# Altium footprint library IPC-SM-782 Section 14.1.3 PBGA 1.0mm.PcbLib: 50 footprints (part 3 of 14)
Each footprint in its own frame and in the unit in brackets; x right, y up, seen from the top. Pads: shape width x height; smd on the part's side, far side on the other; paste and mask are expansions set on the pad; w line width, h text height; cw(c..) or ccw(c..) is an arc to the next point about the centre after c.
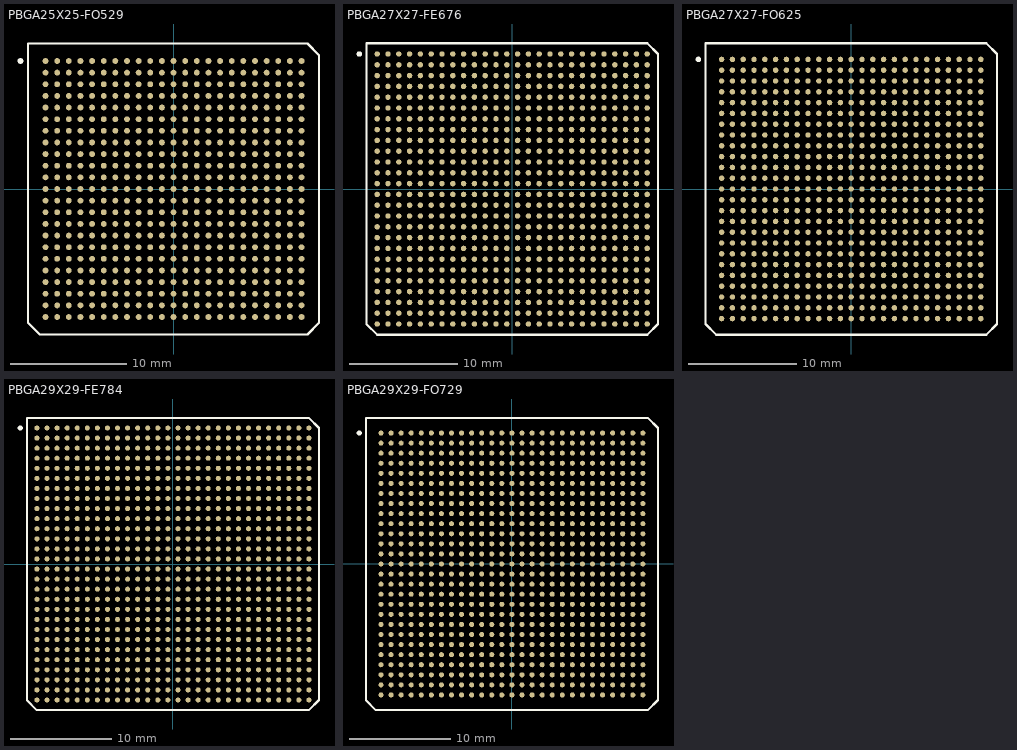
[diagram p2: the footprints below, top view; thin cyan lines are the x and y axes]

## PBGA25X25-FO529 [mm] "BGA; 529 Balls; Body 25 x 25 mm; Pitch 1 mm"
height 3.5
pads (529):
  round 0.5 smd: A1(-11,11) A2(-10,11) A3(-9,11) A4(-8,11) A5(-7,11) A6(-6,11) A7(-5,11) A8(-4,11) A9(-3,11) A10(-2,11) A11(-1,11) A12(0,11) A13(1,11) A14(2,11) A15(3,11) A16(4,11) A17(5,11) A18(6,11) A19(7,11) A20(8,11) A21(9,11) A22(10,11) A23(11,11) AA1(-11,-9) AA2(-10,-9) AA3(-9,-9) AA4(-8,-9) AA5(-7,-9) AA6(-6,-9) AA7(-5,-9) AA8(-4,-9) AA9(-3,-9) AA10(-2,-9) AA11(-1,-9) AA12(0,-9) AA13(1,-9) AA14(2,-9) AA15(3,-9) AA16(4,-9) AA17(5,-9) AA18(6,-9) AA19(7,-9) AA20(8,-9) AA21(9,-9) AA22(10,-9) AA23(11,-9) AB1(-11,-10) AB2(-10,-10) AB3(-9,-10) AB4(-8,-10) AB5(-7,-10) AB6(-6,-10) AB7(-5,-10) AB8(-4,-10) AB9(-3,-10) AB10(-2,-10) AB11(-1,-10) AB12(0,-10) AB13(1,-10) AB14(2,-10) AB15(3,-10) AB16(4,-10) AB17(5,-10) AB18(6,-10) AB19(7,-10) AB20(8,-10) AB21(9,-10) AB22(10,-10) AB23(11,-10) AC1(-11,-11) AC2(-10,-11) AC3(-9,-11) AC4(-8,-11) AC5(-7,-11) AC6(-6,-11) AC7(-5,-11) AC8(-4,-11) AC9(-3,-11) AC10(-2,-11) AC11(-1,-11) AC12(0,-11) AC13(1,-11) AC14(2,-11) AC15(3,-11) AC16(4,-11) AC17(5,-11) AC18(6,-11) AC19(7,-11) AC20(8,-11) AC21(9,-11) AC22(10,-11) AC23(11,-11) B1(-11,10) B2(-10,10) B3(-9,10) B4(-8,10) B5(-7,10) B6(-6,10) B7(-5,10) B8(-4,10) B9(-3,10) B10(-2,10) B11(-1,10) B12(0,10) B13(1,10) B14(2,10) B15(3,10) B16(4,10) B17(5,10) B18(6,10) B19(7,10) B20(8,10) B21(9,10) B22(10,10) B23(11,10) C1(-11,9) C2(-10,9) C3(-9,9) C4(-8,9) C5(-7,9) C6(-6,9) C7(-5,9) C8(-4,9) C9(-3,9) C10(-2,9) C11(-1,9) C12(0,9) C13(1,9) C14(2,9) C15(3,9) C16(4,9) C17(5,9) C18(6,9) C19(7,9) C20(8,9) C21(9,9) C22(10,9) C23(11,9) D1(-11,8) D2(-10,8) D3(-9,8) D4(-8,8) D5(-7,8) D6(-6,8) D7(-5,8) D8(-4,8) D9(-3,8) D10(-2,8) D11(-1,8) D12(0,8) D13(1,8) D14(2,8) D15(3,8) D16(4,8) D17(5,8) D18(6,8) D19(7,8) D20(8,8) D21(9,8) D22(10,8) D23(11,8) E1(-11,7) E2(-10,7) E3(-9,7) E4(-8,7) E5(-7,7) E6(-6,7) E7(-5,7) E8(-4,7) E9(-3,7) E10(-2,7) E11(-1,7) E12(0,7) E13(1,7) E14(2,7) E15(3,7) E16(4,7) E17(5,7) E18(6,7) E19(7,7) E20(8,7) E21(9,7) E22(10,7) E23(11,7) F1(-11,6) F2(-10,6) F3(-9,6) F4(-8,6) F5(-7,6) F6(-6,6) F7(-5,6) F8(-4,6) F9(-3,6) F10(-2,6) F11(-1,6) F12(0,6) F13(1,6) F14(2,6) F15(3,6) F16(4,6) F17(5,6) F18(6,6) F19(7,6) F20(8,6) F21(9,6) F22(10,6) F23(11,6) G1(-11,5) G2(-10,5) G3(-9,5) G4(-8,5) G5(-7,5) G6(-6,5) G7(-5,5) G8(-4,5) G9(-3,5) G10(-2,5) G11(-1,5) G12(0,5) G13(1,5) G14(2,5) G15(3,5) G16(4,5) G17(5,5) G18(6,5) G19(7,5) G20(8,5) G21(9,5) G22(10,5) G23(11,5) H1(-11,4) H2(-10,4) H3(-9,4) H4(-8,4) H5(-7,4) H6(-6,4) H7(-5,4) H8(-4,4) H9(-3,4) H10(-2,4) H11(-1,4) H12(0,4) H13(1,4) H14(2,4) H15(3,4) H16(4,4) H17(5,4) H18(6,4) H19(7,4) H20(8,4) H21(9,4) H22(10,4) H23(11,4) J1(-11,3) J2(-10,3) J3(-9,3) J4(-8,3) J5(-7,3) J6(-6,3) J7(-5,3) J8(-4,3) J9(-3,3) J10(-2,3) J11(-1,3) J12(0,3) J13(1,3) J14(2,3) J15(3,3) J16(4,3) J17(5,3) J18(6,3) J19(7,3) J20(8,3) J21(9,3) J22(10,3) J23(11,3) K1(-11,2) K2(-10,2) K3(-9,2) K4(-8,2) K5(-7,2) K6(-6,2) K7(-5,2) K8(-4,2) K9(-3,2) K10(-2,2) K11(-1,2) K12(0,2) K13(1,2) K14(2,2) K15(3,2) K16(4,2) K17(5,2) K18(6,2) K19(7,2) K20(8,2) K21(9,2) K22(10,2) K23(11,2) L1(-11,1) L2(-10,1) L3(-9,1) L4(-8,1) L5(-7,1) L6(-6,1) L7(-5,1) L8(-4,1) L9(-3,1) L10(-2,1) L11(-1,1) L12(0,1) L13(1,1) L14(2,1) L15(3,1) L16(4,1) L17(5,1) L18(6,1) L19(7,1) L20(8,1) L21(9,1) L22(10,1) L23(11,1) M1(-11,0) M2(-10,0) M3(-9,0) M4(-8,0) M5(-7,0) M6(-6,0) M7(-5,0) M8(-4,0) M9(-3,0) M10(-2,0) M11(-1,0) M12(0,0) M13(1,0) M14(2,0) M15(3,0) M16(4,0) M17(5,0) M18(6,0) M19(7,0) M20(8,0) M21(9,0) M22(10,0) M23(11,0) N1(-11,-1) N2(-10,-1) N3(-9,-1) N4(-8,-1) N5(-7,-1) N6(-6,-1) N7(-5,-1) N8(-4,-1) N9(-3,-1) N10(-2,-1) N11(-1,-1) N12(0,-1) N13(1,-1) N14(2,-1) N15(3,-1) N16(4,-1) N17(5,-1) N18(6,-1) N19(7,-1) N20(8,-1) N21(9,-1) N22(10,-1) N23(11,-1) P1(-11,-2) P2(-10,-2) P3(-9,-2) P4(-8,-2) P5(-7,-2) P6(-6,-2) P7(-5,-2) P8(-4,-2) P9(-3,-2) P10(-2,-2) P11(-1,-2) P12(0,-2) P13(1,-2) P14(2,-2) P15(3,-2) P16(4,-2) P17(5,-2) P18(6,-2) P19(7,-2) P20(8,-2) P21(9,-2) P22(10,-2) P23(11,-2) R1(-11,-3) R2(-10,-3) R3(-9,-3) R4(-8,-3) R5(-7,-3) R6(-6,-3) R7(-5,-3) R8(-4,-3) R9(-3,-3) R10(-2,-3) R11(-1,-3) R12(0,-3) R13(1,-3) R14(2,-3) R15(3,-3) R16(4,-3) R17(5,-3) R18(6,-3) R19(7,-3) R20(8,-3) R21(9,-3) R22(10,-3) R23(11,-3) T1(-11,-4) T2(-10,-4) T3(-9,-4) T4(-8,-4) T5(-7,-4) T6(-6,-4) T7(-5,-4) T8(-4,-4) T9(-3,-4) T10(-2,-4) T11(-1,-4) T12(0,-4) T13(1,-4) T14(2,-4) T15(3,-4) T16(4,-4) T17(5,-4) T18(6,-4) T19(7,-4) T20(8,-4) T21(9,-4) T22(10,-4) T23(11,-4) U1(-11,-5) U2(-10,-5) U3(-9,-5) U4(-8,-5) U5(-7,-5) U6(-6,-5) U7(-5,-5) U8(-4,-5) U9(-3,-5) U10(-2,-5) U11(-1,-5) U12(0,-5) U13(1,-5) U14(2,-5) U15(3,-5) U16(4,-5) U17(5,-5) U18(6,-5) U19(7,-5) U20(8,-5) U21(9,-5) U22(10,-5) U23(11,-5) V1(-11,-6) V2(-10,-6) V3(-9,-6) V4(-8,-6) V5(-7,-6) V6(-6,-6) V7(-5,-6) V8(-4,-6) V9(-3,-6) V10(-2,-6) V11(-1,-6) V12(0,-6) V13(1,-6) V14(2,-6) V15(3,-6) V16(4,-6) V17(5,-6) V18(6,-6) V19(7,-6) V20(8,-6) V21(9,-6) V22(10,-6) V23(11,-6) W1(-11,-7) W2(-10,-7) W3(-9,-7) W4(-8,-7) W5(-7,-7) W6(-6,-7) W7(-5,-7) W8(-4,-7) W9(-3,-7) W10(-2,-7) W11(-1,-7) W12(0,-7) W13(1,-7) W14(2,-7) W15(3,-7) W16(4,-7) W17(5,-7) W18(6,-7) W19(7,-7) W20(8,-7) W21(9,-7) W22(10,-7) W23(11,-7) Y1(-11,-8) Y2(-10,-8) Y3(-9,-8) Y4(-8,-8) Y5(-7,-8) Y6(-6,-8) Y7(-5,-8) Y8(-4,-8) Y9(-3,-8) Y10(-2,-8) Y11(-1,-8) Y12(0,-8) Y13(1,-8) Y14(2,-8) Y15(3,-8) Y16(4,-8) Y17(5,-8) Y18(6,-8) Y19(7,-8) Y20(8,-8) Y21(9,-8) Y22(10,-8) Y23(11,-8)
Top Overlay:
  circle w0.25: c-13.155,11 r0.125
  lines w0.2: -12.5,-11.5 -12.5,12.5 11.5,12.5 12.5,11.5 12.5,-11.5 11.5,-12.5 -11.5,-12.5 -12.5,-11.5

## PBGA27X27-FE676 [mm] "BGA; 676 Balls; Body 27 x 27 mm; Pitch 1 mm"
height 3.5
pads (676):
  round 0.5 smd: A1(-12.5,12.5) A2(-11.5,12.5) A3(-10.5,12.5) A4(-9.5,12.5) A5(-8.5,12.5) A6(-7.5,12.5) A7(-6.5,12.5) A8(-5.5,12.5) A9(-4.5,12.5) A10(-3.5,12.5) A11(-2.5,12.5) A12(-1.5,12.5) A13(-0.5,12.5) A14(0.5,12.5) A15(1.5,12.5) A16(2.5,12.5) A17(3.5,12.5) A18(4.5,12.5) A19(5.5,12.5) A20(6.5,12.5) A21(7.5,12.5) A22(8.5,12.5) A23(9.5,12.5) A24(10.5,12.5) A25(11.5,12.5) A26(12.5,12.5) AA1(-12.5,-7.5) AA2(-11.5,-7.5) AA3(-10.5,-7.5) AA4(-9.5,-7.5) AA5(-8.5,-7.5) AA6(-7.5,-7.5) AA7(-6.5,-7.5) AA8(-5.5,-7.5) AA9(-4.5,-7.5) AA10(-3.5,-7.5) AA11(-2.5,-7.5) AA12(-1.5,-7.5) AA13(-0.5,-7.5) AA14(0.5,-7.5) AA15(1.5,-7.5) AA16(2.5,-7.5) AA17(3.5,-7.5) AA18(4.5,-7.5) AA19(5.5,-7.5) AA20(6.5,-7.5) AA21(7.5,-7.5) AA22(8.5,-7.5) AA23(9.5,-7.5) AA24(10.5,-7.5) AA25(11.5,-7.5) AA26(12.5,-7.5) AB1(-12.5,-8.5) AB2(-11.5,-8.5) AB3(-10.5,-8.5) AB4(-9.5,-8.5) AB5(-8.5,-8.5) AB6(-7.5,-8.5) AB7(-6.5,-8.5) AB8(-5.5,-8.5) AB9(-4.5,-8.5) AB10(-3.5,-8.5) AB11(-2.5,-8.5) AB12(-1.5,-8.5) AB13(-0.5,-8.5) AB14(0.5,-8.5) AB15(1.5,-8.5) AB16(2.5,-8.5) AB17(3.5,-8.5) AB18(4.5,-8.5) AB19(5.5,-8.5) AB20(6.5,-8.5) AB21(7.5,-8.5) AB22(8.5,-8.5) AB23(9.5,-8.5) AB24(10.5,-8.5) AB25(11.5,-8.5) AB26(12.5,-8.5) AC1(-12.5,-9.5) AC2(-11.5,-9.5) AC3(-10.5,-9.5) AC4(-9.5,-9.5) AC5(-8.5,-9.5) AC6(-7.5,-9.5) AC7(-6.5,-9.5) AC8(-5.5,-9.5) AC9(-4.5,-9.5) AC10(-3.5,-9.5) AC11(-2.5,-9.5) AC12(-1.5,-9.5) AC13(-0.5,-9.5) AC14(0.5,-9.5) AC15(1.5,-9.5) AC16(2.5,-9.5) AC17(3.5,-9.5) AC18(4.5,-9.5) AC19(5.5,-9.5) AC20(6.5,-9.5) AC21(7.5,-9.5) AC22(8.5,-9.5) AC23(9.5,-9.5) AC24(10.5,-9.5) AC25(11.5,-9.5) AC26(12.5,-9.5) AD1(-12.5,-10.5) AD2(-11.5,-10.5) AD3(-10.5,-10.5) AD4(-9.5,-10.5) AD5(-8.5,-10.5) AD6(-7.5,-10.5) AD7(-6.5,-10.5) AD8(-5.5,-10.5) AD9(-4.5,-10.5) AD10(-3.5,-10.5) AD11(-2.5,-10.5) AD12(-1.5,-10.5) AD13(-0.5,-10.5) AD14(0.5,-10.5) AD15(1.5,-10.5) AD16(2.5,-10.5) AD17(3.5,-10.5) AD18(4.5,-10.5) AD19(5.5,-10.5) AD20(6.5,-10.5) AD21(7.5,-10.5) AD22(8.5,-10.5) AD23(9.5,-10.5) AD24(10.5,-10.5) AD25(11.5,-10.5) AD26(12.5,-10.5) AE1(-12.5,-11.5) AE2(-11.5,-11.5) AE3(-10.5,-11.5) AE4(-9.5,-11.5) AE5(-8.5,-11.5) AE6(-7.5,-11.5) AE7(-6.5,-11.5) AE8(-5.5,-11.5) AE9(-4.5,-11.5) AE10(-3.5,-11.5) AE11(-2.5,-11.5) AE12(-1.5,-11.5) AE13(-0.5,-11.5) AE14(0.5,-11.5) AE15(1.5,-11.5) AE16(2.5,-11.5) AE17(3.5,-11.5) AE18(4.5,-11.5) AE19(5.5,-11.5) AE20(6.5,-11.5) AE21(7.5,-11.5) AE22(8.5,-11.5) AE23(9.5,-11.5) AE24(10.5,-11.5) AE25(11.5,-11.5) AE26(12.5,-11.5) AF1(-12.5,-12.5) AF2(-11.5,-12.5) AF3(-10.5,-12.5) AF4(-9.5,-12.5) AF5(-8.5,-12.5) AF6(-7.5,-12.5) AF7(-6.5,-12.5) AF8(-5.5,-12.5) AF9(-4.5,-12.5) AF10(-3.5,-12.5) AF11(-2.5,-12.5) AF12(-1.5,-12.5) AF13(-0.5,-12.5) AF14(0.5,-12.5) AF15(1.5,-12.5) AF16(2.5,-12.5) AF17(3.5,-12.5) AF18(4.5,-12.5) AF19(5.5,-12.5) AF20(6.5,-12.5) AF21(7.5,-12.5) AF22(8.5,-12.5) AF23(9.5,-12.5) AF24(10.5,-12.5) AF25(11.5,-12.5) AF26(12.5,-12.5) B1(-12.5,11.5) B2(-11.5,11.5) B3(-10.5,11.5) B4(-9.5,11.5) B5(-8.5,11.5) B6(-7.5,11.5) B7(-6.5,11.5) B8(-5.5,11.5) B9(-4.5,11.5) B10(-3.5,11.5) B11(-2.5,11.5) B12(-1.5,11.5) B13(-0.5,11.5) B14(0.5,11.5) B15(1.5,11.5) B16(2.5,11.5) B17(3.5,11.5) B18(4.5,11.5) B19(5.5,11.5) B20(6.5,11.5) B21(7.5,11.5) B22(8.5,11.5) B23(9.5,11.5) B24(10.5,11.5) B25(11.5,11.5) B26(12.5,11.5) C1(-12.5,10.5) C2(-11.5,10.5) C3(-10.5,10.5) C4(-9.5,10.5) C5(-8.5,10.5) C6(-7.5,10.5) C7(-6.5,10.5) C8(-5.5,10.5) C9(-4.5,10.5) C10(-3.5,10.5) C11(-2.5,10.5) C12(-1.5,10.5) C13(-0.5,10.5) C14(0.5,10.5) C15(1.5,10.5) C16(2.5,10.5) C17(3.5,10.5) C18(4.5,10.5) C19(5.5,10.5) C20(6.5,10.5) C21(7.5,10.5) C22(8.5,10.5) C23(9.5,10.5) C24(10.5,10.5) C25(11.5,10.5) C26(12.5,10.5) D1(-12.5,9.5) D2(-11.5,9.5) D3(-10.5,9.5) D4(-9.5,9.5) D5(-8.5,9.5) D6(-7.5,9.5) D7(-6.5,9.5) D8(-5.5,9.5) D9(-4.5,9.5) D10(-3.5,9.5) D11(-2.5,9.5) D12(-1.5,9.5) D13(-0.5,9.5) D14(0.5,9.5) D15(1.5,9.5) D16(2.5,9.5) D17(3.5,9.5) D18(4.5,9.5) D19(5.5,9.5) D20(6.5,9.5) D21(7.5,9.5) D22(8.5,9.5) D23(9.5,9.5) D24(10.5,9.5) D25(11.5,9.5) D26(12.5,9.5) E1(-12.5,8.5) E2(-11.5,8.5) E3(-10.5,8.5) E4(-9.5,8.5) E5(-8.5,8.5) E6(-7.5,8.5) E7(-6.5,8.5) E8(-5.5,8.5) E9(-4.5,8.5) E10(-3.5,8.5) E11(-2.5,8.5) E12(-1.5,8.5) E13(-0.5,8.5) E14(0.5,8.5) E15(1.5,8.5) E16(2.5,8.5) E17(3.5,8.5) E18(4.5,8.5) E19(5.5,8.5) E20(6.5,8.5) E21(7.5,8.5) E22(8.5,8.5) E23(9.5,8.5) E24(10.5,8.5) E25(11.5,8.5) E26(12.5,8.5) F1(-12.5,7.5) F2(-11.5,7.5) F3(-10.5,7.5) F4(-9.5,7.5) F5(-8.5,7.5) F6(-7.5,7.5) F7(-6.5,7.5) F8(-5.5,7.5) F9(-4.5,7.5) F10(-3.5,7.5) F11(-2.5,7.5) F12(-1.5,7.5) F13(-0.5,7.5) F14(0.5,7.5) F15(1.5,7.5) F16(2.5,7.5) F17(3.5,7.5) F18(4.5,7.5) F19(5.5,7.5) F20(6.5,7.5) F21(7.5,7.5) F22(8.5,7.5) F23(9.5,7.5) F24(10.5,7.5) F25(11.5,7.5) F26(12.5,7.5) G1(-12.5,6.5) G2(-11.5,6.5) G3(-10.5,6.5) G4(-9.5,6.5) G5(-8.5,6.5) G6(-7.5,6.5) G7(-6.5,6.5) G8(-5.5,6.5) G9(-4.5,6.5) G10(-3.5,6.5) G11(-2.5,6.5) G12(-1.5,6.5) G13(-0.5,6.5) G14(0.5,6.5) G15(1.5,6.5) G16(2.5,6.5) G17(3.5,6.5) G18(4.5,6.5) G19(5.5,6.5) G20(6.5,6.5) G21(7.5,6.5) G22(8.5,6.5) G23(9.5,6.5) G24(10.5,6.5) G25(11.5,6.5) G26(12.5,6.5) H1(-12.5,5.5) H2(-11.5,5.5) H3(-10.5,5.5) H4(-9.5,5.5) H5(-8.5,5.5) H6(-7.5,5.5) H7(-6.5,5.5) H8(-5.5,5.5) H9(-4.5,5.5) H10(-3.5,5.5) H11(-2.5,5.5) H12(-1.5,5.5) H13(-0.5,5.5) H14(0.5,5.5) H15(1.5,5.5) H16(2.5,5.5) H17(3.5,5.5) H18(4.5,5.5) H19(5.5,5.5) H20(6.5,5.5) H21(7.5,5.5) H22(8.5,5.5) H23(9.5,5.5) H24(10.5,5.5) H25(11.5,5.5) H26(12.5,5.5) J1(-12.5,4.5) J2(-11.5,4.5) J3(-10.5,4.5) J4(-9.5,4.5) J5(-8.5,4.5) J6(-7.5,4.5) J7(-6.5,4.5) J8(-5.5,4.5) J9(-4.5,4.5) J10(-3.5,4.5) J11(-2.5,4.5) J12(-1.5,4.5) J13(-0.5,4.5) J14(0.5,4.5) J15(1.5,4.5) J16(2.5,4.5) J17(3.5,4.5) J18(4.5,4.5) J19(5.5,4.5) J20(6.5,4.5) J21(7.5,4.5) J22(8.5,4.5) J23(9.5,4.5) J24(10.5,4.5) J25(11.5,4.5) J26(12.5,4.5) K1(-12.5,3.5) K2(-11.5,3.5) K3(-10.5,3.5) K4(-9.5,3.5) K5(-8.5,3.5) K6(-7.5,3.5) K7(-6.5,3.5) K8(-5.5,3.5) K9(-4.5,3.5) K10(-3.5,3.5) K11(-2.5,3.5) K12(-1.5,3.5) K13(-0.5,3.5) K14(0.5,3.5) K15(1.5,3.5) K16(2.5,3.5) K17(3.5,3.5) K18(4.5,3.5) K19(5.5,3.5) K20(6.5,3.5) K21(7.5,3.5) K22(8.5,3.5) K23(9.5,3.5) K24(10.5,3.5) K25(11.5,3.5) K26(12.5,3.5) L1(-12.5,2.5) L2(-11.5,2.5) L3(-10.5,2.5) L4(-9.5,2.5) L5(-8.5,2.5) L6(-7.5,2.5) L7(-6.5,2.5) L8(-5.5,2.5) L9(-4.5,2.5) L10(-3.5,2.5) L11(-2.5,2.5) L12(-1.5,2.5) L13(-0.5,2.5) L14(0.5,2.5) L15(1.5,2.5) L16(2.5,2.5) L17(3.5,2.5) L18(4.5,2.5) L19(5.5,2.5) L20(6.5,2.5) L21(7.5,2.5) L22(8.5,2.5) L23(9.5,2.5) L24(10.5,2.5) L25(11.5,2.5) L26(12.5,2.5) M1(-12.5,1.5) M2(-11.5,1.5) M3(-10.5,1.5) M4(-9.5,1.5) M5(-8.5,1.5) M6(-7.5,1.5) M7(-6.5,1.5) M8(-5.5,1.5) M9(-4.5,1.5) M10(-3.5,1.5) M11(-2.5,1.5) M12(-1.5,1.5) M13(-0.5,1.5) M14(0.5,1.5) M15(1.5,1.5) M16(2.5,1.5) M17(3.5,1.5) M18(4.5,1.5) M19(5.5,1.5) M20(6.5,1.5) M21(7.5,1.5) M22(8.5,1.5) M23(9.5,1.5) M24(10.5,1.5) M25(11.5,1.5) M26(12.5,1.5) N1(-12.5,0.5) N2(-11.5,0.5) N3(-10.5,0.5) N4(-9.5,0.5) N5(-8.5,0.5) N6(-7.5,0.5) N7(-6.5,0.5) N8(-5.5,0.5) N9(-4.5,0.5) N10(-3.5,0.5) N11(-2.5,0.5) N12(-1.5,0.5) N13(-0.5,0.5) N14(0.5,0.5) N15(1.5,0.5) N16(2.5,0.5) N17(3.5,0.5) N18(4.5,0.5) N19(5.5,0.5) N20(6.5,0.5) N21(7.5,0.5) N22(8.5,0.5) N23(9.5,0.5) N24(10.5,0.5) N25(11.5,0.5) N26(12.5,0.5) P1(-12.5,-0.5) P2(-11.5,-0.5) P3(-10.5,-0.5) P4(-9.5,-0.5) P5(-8.5,-0.5) P6(-7.5,-0.5) P7(-6.5,-0.5) P8(-5.5,-0.5) P9(-4.5,-0.5) P10(-3.5,-0.5) P11(-2.5,-0.5) P12(-1.5,-0.5) P13(-0.5,-0.5) P14(0.5,-0.5) P15(1.5,-0.5) P16(2.5,-0.5) P17(3.5,-0.5) P18(4.5,-0.5) P19(5.5,-0.5) P20(6.5,-0.5) P21(7.5,-0.5) P22(8.5,-0.5) P23(9.5,-0.5) P24(10.5,-0.5) P25(11.5,-0.5) P26(12.5,-0.5) R1(-12.5,-1.5) R2(-11.5,-1.5) R3(-10.5,-1.5) R4(-9.5,-1.5) R5(-8.5,-1.5) R6(-7.5,-1.5) R7(-6.5,-1.5) R8(-5.5,-1.5) R9(-4.5,-1.5) R10(-3.5,-1.5) R11(-2.5,-1.5) R12(-1.5,-1.5) R13(-0.5,-1.5) R14(0.5,-1.5) R15(1.5,-1.5) R16(2.5,-1.5) R17(3.5,-1.5) R18(4.5,-1.5) R19(5.5,-1.5) R20(6.5,-1.5) R21(7.5,-1.5) R22(8.5,-1.5) R23(9.5,-1.5) R24(10.5,-1.5) R25(11.5,-1.5) R26(12.5,-1.5) T1(-12.5,-2.5) T2(-11.5,-2.5) T3(-10.5,-2.5) T4(-9.5,-2.5) T5(-8.5,-2.5) T6(-7.5,-2.5) T7(-6.5,-2.5) T8(-5.5,-2.5) T9(-4.5,-2.5) T10(-3.5,-2.5) T11(-2.5,-2.5) T12(-1.5,-2.5) T13(-0.5,-2.5) T14(0.5,-2.5) T15(1.5,-2.5) T16(2.5,-2.5) T17(3.5,-2.5) T18(4.5,-2.5) T19(5.5,-2.5) T20(6.5,-2.5) T21(7.5,-2.5) T22(8.5,-2.5) T23(9.5,-2.5) T24(10.5,-2.5) T25(11.5,-2.5) T26(12.5,-2.5) U1(-12.5,-3.5) U2(-11.5,-3.5) U3(-10.5,-3.5) U4(-9.5,-3.5) U5(-8.5,-3.5) U6(-7.5,-3.5) U7(-6.5,-3.5) U8(-5.5,-3.5) U9(-4.5,-3.5) U10(-3.5,-3.5) U11(-2.5,-3.5) U12(-1.5,-3.5) U13(-0.5,-3.5) U14(0.5,-3.5) U15(1.5,-3.5) U16(2.5,-3.5) U17(3.5,-3.5) U18(4.5,-3.5) U19(5.5,-3.5) U20(6.5,-3.5) U21(7.5,-3.5) U22(8.5,-3.5) U23(9.5,-3.5) U24(10.5,-3.5) U25(11.5,-3.5) U26(12.5,-3.5) V1(-12.5,-4.5) V2(-11.5,-4.5) V3(-10.5,-4.5) V4(-9.5,-4.5) V5(-8.5,-4.5) V6(-7.5,-4.5) V7(-6.5,-4.5) V8(-5.5,-4.5) V9(-4.5,-4.5) V10(-3.5,-4.5) V11(-2.5,-4.5) V12(-1.5,-4.5) V13(-0.5,-4.5) V14(0.5,-4.5) V15(1.5,-4.5) V16(2.5,-4.5) V17(3.5,-4.5) V18(4.5,-4.5) V19(5.5,-4.5) V20(6.5,-4.5) V21(7.5,-4.5) V22(8.5,-4.5) V23(9.5,-4.5) V24(10.5,-4.5) V25(11.5,-4.5) V26(12.5,-4.5) W1(-12.5,-5.5) W2(-11.5,-5.5) W3(-10.5,-5.5) W4(-9.5,-5.5) W5(-8.5,-5.5) W6(-7.5,-5.5) W7(-6.5,-5.5) W8(-5.5,-5.5) W9(-4.5,-5.5) W10(-3.5,-5.5) W11(-2.5,-5.5) W12(-1.5,-5.5) W13(-0.5,-5.5) W14(0.5,-5.5) W15(1.5,-5.5) W16(2.5,-5.5) W17(3.5,-5.5) W18(4.5,-5.5) W19(5.5,-5.5) W20(6.5,-5.5) W21(7.5,-5.5) W22(8.5,-5.5) W23(9.5,-5.5) W24(10.5,-5.5) W25(11.5,-5.5) W26(12.5,-5.5) Y1(-12.5,-6.5) Y2(-11.5,-6.5) Y3(-10.5,-6.5) Y4(-9.5,-6.5) Y5(-8.5,-6.5) Y6(-7.5,-6.5) Y7(-6.5,-6.5) Y8(-5.5,-6.5) Y9(-4.5,-6.5) Y10(-3.5,-6.5) Y11(-2.5,-6.5) Y12(-1.5,-6.5) Y13(-0.5,-6.5) Y14(0.5,-6.5) Y15(1.5,-6.5) Y16(2.5,-6.5) Y17(3.5,-6.5) Y18(4.5,-6.5) Y19(5.5,-6.5) Y20(6.5,-6.5) Y21(7.5,-6.5) Y22(8.5,-6.5) Y23(9.5,-6.5) Y24(10.5,-6.5) Y25(11.5,-6.5) Y26(12.5,-6.5)
Top Overlay:
  circle w0.25: c-14.15,12.5 r0.125
  lines w0.2: -13.5,-12.5 -12.5,-13.5 12.5,-13.5 13.5,-12.5 13.5,12.5 12.5,13.5 -13.5,13.5 -13.5,-12.5

## PBGA27X27-FO625 [mm] "BGA; 625 Balls; Body 27 x 27 mm; Pitch 1 mm"
height 3.5
pads (625):
  round 0.5 smd: A1(-12,12) A2(-11,12) A3(-10,12) A4(-9,12) A5(-8,12) A6(-7,12) A7(-6,12) A8(-5,12) A9(-4,12) A10(-3,12) A11(-2,12) A12(-1,12) A13(0,12) A14(1,12) A15(2,12) A16(3,12) A17(4,12) A18(5,12) A19(6,12) A20(7,12) A21(8,12) A22(9,12) A23(10,12) A24(11,12) A25(12,12) AA1(-12,-8) AA2(-11,-8) AA3(-10,-8) AA4(-9,-8) AA5(-8,-8) AA6(-7,-8) AA7(-6,-8) AA8(-5,-8) AA9(-4,-8) AA10(-3,-8) AA11(-2,-8) AA12(-1,-8) AA13(0,-8) AA14(1,-8) AA15(2,-8) AA16(3,-8) AA17(4,-8) AA18(5,-8) AA19(6,-8) AA20(7,-8) AA21(8,-8) AA22(9,-8) AA23(10,-8) AA24(11,-8) AA25(12,-8) AB1(-12,-9) AB2(-11,-9) AB3(-10,-9) AB4(-9,-9) AB5(-8,-9) AB6(-7,-9) AB7(-6,-9) AB8(-5,-9) AB9(-4,-9) AB10(-3,-9) AB11(-2,-9) AB12(-1,-9) AB13(0,-9) AB14(1,-9) AB15(2,-9) AB16(3,-9) AB17(4,-9) AB18(5,-9) AB19(6,-9) AB20(7,-9) AB21(8,-9) AB22(9,-9) AB23(10,-9) AB24(11,-9) AB25(12,-9) AC1(-12,-10) AC2(-11,-10) AC3(-10,-10) AC4(-9,-10) AC5(-8,-10) AC6(-7,-10) AC7(-6,-10) AC8(-5,-10) AC9(-4,-10) AC10(-3,-10) AC11(-2,-10) AC12(-1,-10) AC13(0,-10) AC14(1,-10) AC15(2,-10) AC16(3,-10) AC17(4,-10) AC18(5,-10) AC19(6,-10) AC20(7,-10) AC21(8,-10) AC22(9,-10) AC23(10,-10) AC24(11,-10) AC25(12,-10) AD1(-12,-11) AD2(-11,-11) AD3(-10,-11) AD4(-9,-11) AD5(-8,-11) AD6(-7,-11) AD7(-6,-11) AD8(-5,-11) AD9(-4,-11) AD10(-3,-11) AD11(-2,-11) AD12(-1,-11) AD13(0,-11) AD14(1,-11) AD15(2,-11) AD16(3,-11) AD17(4,-11) AD18(5,-11) AD19(6,-11) AD20(7,-11) AD21(8,-11) AD22(9,-11) AD23(10,-11) AD24(11,-11) AD25(12,-11) AE1(-12,-12) AE2(-11,-12) AE3(-10,-12) AE4(-9,-12) AE5(-8,-12) AE6(-7,-12) AE7(-6,-12) AE8(-5,-12) AE9(-4,-12) AE10(-3,-12) AE11(-2,-12) AE12(-1,-12) AE13(0,-12) AE14(1,-12) AE15(2,-12) AE16(3,-12) AE17(4,-12) AE18(5,-12) AE19(6,-12) AE20(7,-12) AE21(8,-12) AE22(9,-12) AE23(10,-12) AE24(11,-12) AE25(12,-12) B1(-12,11) B2(-11,11) B3(-10,11) B4(-9,11) B5(-8,11) B6(-7,11) B7(-6,11) B8(-5,11) B9(-4,11) B10(-3,11) B11(-2,11) B12(-1,11) B13(0,11) B14(1,11) B15(2,11) B16(3,11) B17(4,11) B18(5,11) B19(6,11) B20(7,11) B21(8,11) B22(9,11) B23(10,11) B24(11,11) B25(12,11) C1(-12,10) C2(-11,10) C3(-10,10) C4(-9,10) C5(-8,10) C6(-7,10) C7(-6,10) C8(-5,10) C9(-4,10) C10(-3,10) C11(-2,10) C12(-1,10) C13(0,10) C14(1,10) C15(2,10) C16(3,10) C17(4,10) C18(5,10) C19(6,10) C20(7,10) C21(8,10) C22(9,10) C23(10,10) C24(11,10) C25(12,10) D1(-12,9) D2(-11,9) D3(-10,9) D4(-9,9) D5(-8,9) D6(-7,9) D7(-6,9) D8(-5,9) D9(-4,9) D10(-3,9) D11(-2,9) D12(-1,9) D13(0,9) D14(1,9) D15(2,9) D16(3,9) D17(4,9) D18(5,9) D19(6,9) D20(7,9) D21(8,9) D22(9,9) D23(10,9) D24(11,9) D25(12,9) E1(-12,8) E2(-11,8) E3(-10,8) E4(-9,8) E5(-8,8) E6(-7,8) E7(-6,8) E8(-5,8) E9(-4,8) E10(-3,8) E11(-2,8) E12(-1,8) E13(0,8) E14(1,8) E15(2,8) E16(3,8) E17(4,8) E18(5,8) E19(6,8) E20(7,8) E21(8,8) E22(9,8) E23(10,8) E24(11,8) E25(12,8) F1(-12,7) F2(-11,7) F3(-10,7) F4(-9,7) F5(-8,7) F6(-7,7) F7(-6,7) F8(-5,7) F9(-4,7) F10(-3,7) F11(-2,7) F12(-1,7) F13(0,7) F14(1,7) F15(2,7) F16(3,7) F17(4,7) F18(5,7) F19(6,7) F20(7,7) F21(8,7) F22(9,7) F23(10,7) F24(11,7) F25(12,7) G1(-12,6) G2(-11,6) G3(-10,6) G4(-9,6) G5(-8,6) G6(-7,6) G7(-6,6) G8(-5,6) G9(-4,6) G10(-3,6) G11(-2,6) G12(-1,6) G13(0,6) G14(1,6) G15(2,6) G16(3,6) G17(4,6) G18(5,6) G19(6,6) G20(7,6) G21(8,6) G22(9,6) G23(10,6) G24(11,6) G25(12,6) H1(-12,5) H2(-11,5) H3(-10,5) H4(-9,5) H5(-8,5) H6(-7,5) H7(-6,5) H8(-5,5) H9(-4,5) H10(-3,5) H11(-2,5) H12(-1,5) H13(0,5) H14(1,5) H15(2,5) H16(3,5) H17(4,5) H18(5,5) H19(6,5) H20(7,5) H21(8,5) H22(9,5) H23(10,5) H24(11,5) H25(12,5) J1(-12,4) J2(-11,4) J3(-10,4) J4(-9,4) J5(-8,4) J6(-7,4) J7(-6,4) J8(-5,4) J9(-4,4) J10(-3,4) J11(-2,4) J12(-1,4) J13(0,4) J14(1,4) J15(2,4) J16(3,4) J17(4,4) J18(5,4) J19(6,4) J20(7,4) J21(8,4) J22(9,4) J23(10,4) J24(11,4) J25(12,4) K1(-12,3) K2(-11,3) K3(-10,3) K4(-9,3) K5(-8,3) K6(-7,3) K7(-6,3) K8(-5,3) K9(-4,3) K10(-3,3) K11(-2,3) K12(-1,3) K13(0,3) K14(1,3) K15(2,3) K16(3,3) K17(4,3) K18(5,3) K19(6,3) K20(7,3) K21(8,3) K22(9,3) K23(10,3) K24(11,3) K25(12,3) L1(-12,2) L2(-11,2) L3(-10,2) L4(-9,2) L5(-8,2) L6(-7,2) L7(-6,2) L8(-5,2) L9(-4,2) L10(-3,2) L11(-2,2) L12(-1,2) L13(0,2) L14(1,2) L15(2,2) L16(3,2) L17(4,2) L18(5,2) L19(6,2) L20(7,2) L21(8,2) L22(9,2) L23(10,2) L24(11,2) L25(12,2) M1(-12,1) M2(-11,1) M3(-10,1) M4(-9,1) M5(-8,1) M6(-7,1) M7(-6,1) M8(-5,1) M9(-4,1) M10(-3,1) M11(-2,1) M12(-1,1) M13(0,1) M14(1,1) M15(2,1) M16(3,1) M17(4,1) M18(5,1) M19(6,1) M20(7,1) M21(8,1) M22(9,1) M23(10,1) M24(11,1) M25(12,1) N1(-12,0) N2(-11,0) N3(-10,0) N4(-9,0) N5(-8,0) N6(-7,0) N7(-6,0) N8(-5,0) N9(-4,0) N10(-3,0) N11(-2,0) N12(-1,0) N13(0,0) N14(1,0) N15(2,0) N16(3,0) N17(4,0) N18(5,0) N19(6,0) N20(7,0) N21(8,0) N22(9,0) N23(10,0) N24(11,0) N25(12,0) P1(-12,-1) P2(-11,-1) P3(-10,-1) P4(-9,-1) P5(-8,-1) P6(-7,-1) P7(-6,-1) P8(-5,-1) P9(-4,-1) P10(-3,-1) P11(-2,-1) P12(-1,-1) P13(0,-1) P14(1,-1) P15(2,-1) P16(3,-1) P17(4,-1) P18(5,-1) P19(6,-1) P20(7,-1) P21(8,-1) P22(9,-1) P23(10,-1) P24(11,-1) P25(12,-1) R1(-12,-2) R2(-11,-2) R3(-10,-2) R4(-9,-2) R5(-8,-2) R6(-7,-2) R7(-6,-2) R8(-5,-2) R9(-4,-2) R10(-3,-2) R11(-2,-2) R12(-1,-2) R13(0,-2) R14(1,-2) R15(2,-2) R16(3,-2) R17(4,-2) R18(5,-2) R19(6,-2) R20(7,-2) R21(8,-2) R22(9,-2) R23(10,-2) R24(11,-2) R25(12,-2) T1(-12,-3) T2(-11,-3) T3(-10,-3) T4(-9,-3) T5(-8,-3) T6(-7,-3) T7(-6,-3) T8(-5,-3) T9(-4,-3) T10(-3,-3) T11(-2,-3) T12(-1,-3) T13(0,-3) T14(1,-3) T15(2,-3) T16(3,-3) T17(4,-3) T18(5,-3) T19(6,-3) T20(7,-3) T21(8,-3) T22(9,-3) T23(10,-3) T24(11,-3) T25(12,-3) U1(-12,-4) U2(-11,-4) U3(-10,-4) U4(-9,-4) U5(-8,-4) U6(-7,-4) U7(-6,-4) U8(-5,-4) U9(-4,-4) U10(-3,-4) U11(-2,-4) U12(-1,-4) U13(0,-4) U14(1,-4) U15(2,-4) U16(3,-4) U17(4,-4) U18(5,-4) U19(6,-4) U20(7,-4) U21(8,-4) U22(9,-4) U23(10,-4) U24(11,-4) U25(12,-4) V1(-12,-5) V2(-11,-5) V3(-10,-5) V4(-9,-5) V5(-8,-5) V6(-7,-5) V7(-6,-5) V8(-5,-5) V9(-4,-5) V10(-3,-5) V11(-2,-5) V12(-1,-5) V13(0,-5) V14(1,-5) V15(2,-5) V16(3,-5) V17(4,-5) V18(5,-5) V19(6,-5) V20(7,-5) V21(8,-5) V22(9,-5) V23(10,-5) V24(11,-5) V25(12,-5) W1(-12,-6) W2(-11,-6) W3(-10,-6) W4(-9,-6) W5(-8,-6) W6(-7,-6) W7(-6,-6) W8(-5,-6) W9(-4,-6) W10(-3,-6) W11(-2,-6) W12(-1,-6) W13(0,-6) W14(1,-6) W15(2,-6) W16(3,-6) W17(4,-6) W18(5,-6) W19(6,-6) W20(7,-6) W21(8,-6) W22(9,-6) W23(10,-6) W24(11,-6) W25(12,-6) Y1(-12,-7) Y2(-11,-7) Y3(-10,-7) Y4(-9,-7) Y5(-8,-7) Y6(-7,-7) Y7(-6,-7) Y8(-5,-7) Y9(-4,-7) Y10(-3,-7) Y11(-2,-7) Y12(-1,-7) Y13(0,-7) Y14(1,-7) Y15(2,-7) Y16(3,-7) Y17(4,-7) Y18(5,-7) Y19(6,-7) Y20(7,-7) Y21(8,-7) Y22(9,-7) Y23(10,-7) Y24(11,-7) Y25(12,-7)
Top Overlay:
  circle w0.25: c-14.155,12 r0.125
  lines w0.2: -13.5,-12.5 -13.5,13.5 12.5,13.5 13.5,12.5 13.5,-12.5 12.5,-13.5 -12.5,-13.5 -13.5,-12.5

## PBGA29X29-FE784 [mm] "BGA; 784 Balls; Body 29 x 29 mm; Pitch 1 mm"
height 3.5
pads (784):
  round 0.5 smd: A1(-13.5,13.5) A2(-12.5,13.5) A3(-11.5,13.5) A4(-10.5,13.5) A5(-9.5,13.5) A6(-8.5,13.5) A7(-7.5,13.5) A8(-6.5,13.5) A9(-5.5,13.5) A10(-4.5,13.5) A11(-3.5,13.5) A12(-2.5,13.5) A13(-1.5,13.5) A14(-0.5,13.5) A15(0.5,13.5) A16(1.5,13.5) A17(2.5,13.5) A18(3.5,13.5) A19(4.5,13.5) A20(5.5,13.5) A21(6.5,13.5) A22(7.5,13.5) A23(8.5,13.5) A24(9.5,13.5) A25(10.5,13.5) A26(11.5,13.5) A27(12.5,13.5) A28(13.5,13.5) AA1(-13.5,-6.5) AA2(-12.5,-6.5) AA3(-11.5,-6.5) AA4(-10.5,-6.5) AA5(-9.5,-6.5) AA6(-8.5,-6.5) AA7(-7.5,-6.5) AA8(-6.5,-6.5) AA9(-5.5,-6.5) AA10(-4.5,-6.5) AA11(-3.5,-6.5) AA12(-2.5,-6.5) AA13(-1.5,-6.5) AA14(-0.5,-6.5) AA15(0.5,-6.5) AA16(1.5,-6.5) AA17(2.5,-6.5) AA18(3.5,-6.5) AA19(4.5,-6.5) AA20(5.5,-6.5) AA21(6.5,-6.5) AA22(7.5,-6.5) AA23(8.5,-6.5) AA24(9.5,-6.5) AA25(10.5,-6.5) AA26(11.5,-6.5) AA27(12.5,-6.5) AA28(13.5,-6.5) AB1(-13.5,-7.5) AB2(-12.5,-7.5) AB3(-11.5,-7.5) AB4(-10.5,-7.5) AB5(-9.5,-7.5) AB6(-8.5,-7.5) AB7(-7.5,-7.5) AB8(-6.5,-7.5) AB9(-5.5,-7.5) AB10(-4.5,-7.5) AB11(-3.5,-7.5) AB12(-2.5,-7.5) AB13(-1.5,-7.5) AB14(-0.5,-7.5) AB15(0.5,-7.5) AB16(1.5,-7.5) AB17(2.5,-7.5) AB18(3.5,-7.5) AB19(4.5,-7.5) AB20(5.5,-7.5) AB21(6.5,-7.5) AB22(7.5,-7.5) AB23(8.5,-7.5) AB24(9.5,-7.5) AB25(10.5,-7.5) AB26(11.5,-7.5) AB27(12.5,-7.5) AB28(13.5,-7.5) AC1(-13.5,-8.5) AC2(-12.5,-8.5) AC3(-11.5,-8.5) AC4(-10.5,-8.5) AC5(-9.5,-8.5) AC6(-8.5,-8.5) AC7(-7.5,-8.5) AC8(-6.5,-8.5) AC9(-5.5,-8.5) AC10(-4.5,-8.5) AC11(-3.5,-8.5) AC12(-2.5,-8.5) AC13(-1.5,-8.5) AC14(-0.5,-8.5) AC15(0.5,-8.5) AC16(1.5,-8.5) AC17(2.5,-8.5) AC18(3.5,-8.5) AC19(4.5,-8.5) AC20(5.5,-8.5) AC21(6.5,-8.5) AC22(7.5,-8.5) AC23(8.5,-8.5) AC24(9.5,-8.5) AC25(10.5,-8.5) AC26(11.5,-8.5) AC27(12.5,-8.5) AC28(13.5,-8.5) AD1(-13.5,-9.5) AD2(-12.5,-9.5) AD3(-11.5,-9.5) AD4(-10.5,-9.5) AD5(-9.5,-9.5) AD6(-8.5,-9.5) AD7(-7.5,-9.5) AD8(-6.5,-9.5) AD9(-5.5,-9.5) AD10(-4.5,-9.5) AD11(-3.5,-9.5) AD12(-2.5,-9.5) AD13(-1.5,-9.5) AD14(-0.5,-9.5) AD15(0.5,-9.5) AD16(1.5,-9.5) AD17(2.5,-9.5) AD18(3.5,-9.5) AD19(4.5,-9.5) AD20(5.5,-9.5) AD21(6.5,-9.5) AD22(7.5,-9.5) AD23(8.5,-9.5) AD24(9.5,-9.5) AD25(10.5,-9.5) AD26(11.5,-9.5) AD27(12.5,-9.5) AD28(13.5,-9.5) AE1(-13.5,-10.5) AE2(-12.5,-10.5) AE3(-11.5,-10.5) AE4(-10.5,-10.5) AE5(-9.5,-10.5) AE6(-8.5,-10.5) AE7(-7.5,-10.5) AE8(-6.5,-10.5) AE9(-5.5,-10.5) AE10(-4.5,-10.5) AE11(-3.5,-10.5) AE12(-2.5,-10.5) AE13(-1.5,-10.5) AE14(-0.5,-10.5) AE15(0.5,-10.5) AE16(1.5,-10.5) AE17(2.5,-10.5) AE18(3.5,-10.5) AE19(4.5,-10.5) AE20(5.5,-10.5) AE21(6.5,-10.5) AE22(7.5,-10.5) AE23(8.5,-10.5) AE24(9.5,-10.5) AE25(10.5,-10.5) AE26(11.5,-10.5) AE27(12.5,-10.5) AE28(13.5,-10.5) AF1(-13.5,-11.5) AF2(-12.5,-11.5) AF3(-11.5,-11.5) AF4(-10.5,-11.5) AF5(-9.5,-11.5) AF6(-8.5,-11.5) AF7(-7.5,-11.5) AF8(-6.5,-11.5) AF9(-5.5,-11.5) AF10(-4.5,-11.5) AF11(-3.5,-11.5) AF12(-2.5,-11.5) AF13(-1.5,-11.5) AF14(-0.5,-11.5) AF15(0.5,-11.5) AF16(1.5,-11.5) AF17(2.5,-11.5) AF18(3.5,-11.5) AF19(4.5,-11.5) AF20(5.5,-11.5) AF21(6.5,-11.5) AF22(7.5,-11.5) AF23(8.5,-11.5) AF24(9.5,-11.5) AF25(10.5,-11.5) AF26(11.5,-11.5) AF27(12.5,-11.5) AF28(13.5,-11.5) AG1(-13.5,-12.5) AG2(-12.5,-12.5) AG3(-11.5,-12.5) AG4(-10.5,-12.5) AG5(-9.5,-12.5) AG6(-8.5,-12.5) AG7(-7.5,-12.5) AG8(-6.5,-12.5) AG9(-5.5,-12.5) AG10(-4.5,-12.5) AG11(-3.5,-12.5) AG12(-2.5,-12.5) AG13(-1.5,-12.5) AG14(-0.5,-12.5) AG15(0.5,-12.5) AG16(1.5,-12.5) AG17(2.5,-12.5) AG18(3.5,-12.5) AG19(4.5,-12.5) AG20(5.5,-12.5) AG21(6.5,-12.5) AG22(7.5,-12.5) AG23(8.5,-12.5) AG24(9.5,-12.5) AG25(10.5,-12.5) AG26(11.5,-12.5) AG27(12.5,-12.5) AG28(13.5,-12.5) AH1(-13.5,-13.5) AH2(-12.5,-13.5) AH3(-11.5,-13.5) AH4(-10.5,-13.5) AH5(-9.5,-13.5) AH6(-8.5,-13.5) AH7(-7.5,-13.5) AH8(-6.5,-13.5) AH9(-5.5,-13.5) AH10(-4.5,-13.5) AH11(-3.5,-13.5) AH12(-2.5,-13.5) AH13(-1.5,-13.5) AH14(-0.5,-13.5) AH15(0.5,-13.5) AH16(1.5,-13.5) AH17(2.5,-13.5) AH18(3.5,-13.5) AH19(4.5,-13.5) AH20(5.5,-13.5) AH21(6.5,-13.5) AH22(7.5,-13.5) AH23(8.5,-13.5) AH24(9.5,-13.5) AH25(10.5,-13.5) AH26(11.5,-13.5) AH27(12.5,-13.5) AH28(13.5,-13.5) B1(-13.5,12.5) B2(-12.5,12.5) B3(-11.5,12.5) B4(-10.5,12.5) B5(-9.5,12.5) B6(-8.5,12.5) B7(-7.5,12.5) B8(-6.5,12.5) B9(-5.5,12.5) B10(-4.5,12.5) B11(-3.5,12.5) B12(-2.5,12.5) B13(-1.5,12.5) B14(-0.5,12.5) B15(0.5,12.5) B16(1.5,12.5) B17(2.5,12.5) B18(3.5,12.5) B19(4.5,12.5) B20(5.5,12.5) B21(6.5,12.5) B22(7.5,12.5) B23(8.5,12.5) B24(9.5,12.5) B25(10.5,12.5) B26(11.5,12.5) B27(12.5,12.5) B28(13.5,12.5) C1(-13.5,11.5) C2(-12.5,11.5) C3(-11.5,11.5) C4(-10.5,11.5) C5(-9.5,11.5) C6(-8.5,11.5) C7(-7.5,11.5) C8(-6.5,11.5) C9(-5.5,11.5) C10(-4.5,11.5) C11(-3.5,11.5) C12(-2.5,11.5) C13(-1.5,11.5) C14(-0.5,11.5) C15(0.5,11.5) C16(1.5,11.5) C17(2.5,11.5) C18(3.5,11.5) C19(4.5,11.5) C20(5.5,11.5) C21(6.5,11.5) C22(7.5,11.5) C23(8.5,11.5) C24(9.5,11.5) C25(10.5,11.5) C26(11.5,11.5) C27(12.5,11.5) C28(13.5,11.5) D1(-13.5,10.5) D2(-12.5,10.5) D3(-11.5,10.5) D4(-10.5,10.5) D5(-9.5,10.5) D6(-8.5,10.5) D7(-7.5,10.5) D8(-6.5,10.5) D9(-5.5,10.5) D10(-4.5,10.5) D11(-3.5,10.5) D12(-2.5,10.5) D13(-1.5,10.5) D14(-0.5,10.5) D15(0.5,10.5) D16(1.5,10.5) D17(2.5,10.5) D18(3.5,10.5) D19(4.5,10.5) D20(5.5,10.5) D21(6.5,10.5) D22(7.5,10.5) D23(8.5,10.5) D24(9.5,10.5) D25(10.5,10.5) D26(11.5,10.5) D27(12.5,10.5) D28(13.5,10.5) E1(-13.5,9.5) E2(-12.5,9.5) E3(-11.5,9.5) E4(-10.5,9.5) E5(-9.5,9.5) E6(-8.5,9.5) E7(-7.5,9.5) E8(-6.5,9.5) E9(-5.5,9.5) E10(-4.5,9.5) E11(-3.5,9.5) E12(-2.5,9.5) E13(-1.5,9.5) E14(-0.5,9.5) E15(0.5,9.5) E16(1.5,9.5) E17(2.5,9.5) E18(3.5,9.5) E19(4.5,9.5) E20(5.5,9.5) E21(6.5,9.5) E22(7.5,9.5) E23(8.5,9.5) E24(9.5,9.5) E25(10.5,9.5) E26(11.5,9.5) E27(12.5,9.5) E28(13.5,9.5) F1(-13.5,8.5) F2(-12.5,8.5) F3(-11.5,8.5) F4(-10.5,8.5) F5(-9.5,8.5) F6(-8.5,8.5) F7(-7.5,8.5) F8(-6.5,8.5) F9(-5.5,8.5) F10(-4.5,8.5) F11(-3.5,8.5) F12(-2.5,8.5) F13(-1.5,8.5) F14(-0.5,8.5) F15(0.5,8.5) F16(1.5,8.5) F17(2.5,8.5) F18(3.5,8.5) F19(4.5,8.5) F20(5.5,8.5) F21(6.5,8.5) F22(7.5,8.5) F23(8.5,8.5) F24(9.5,8.5) F25(10.5,8.5) F26(11.5,8.5) F27(12.5,8.5) F28(13.5,8.5) G1(-13.5,7.5) G2(-12.5,7.5) G3(-11.5,7.5) G4(-10.5,7.5) G5(-9.5,7.5) G6(-8.5,7.5) G7(-7.5,7.5) G8(-6.5,7.5) G9(-5.5,7.5) G10(-4.5,7.5) G11(-3.5,7.5) G12(-2.5,7.5) G13(-1.5,7.5) G14(-0.5,7.5) G15(0.5,7.5) G16(1.5,7.5) G17(2.5,7.5) G18(3.5,7.5) G19(4.5,7.5) G20(5.5,7.5) G21(6.5,7.5) G22(7.5,7.5) G23(8.5,7.5) G24(9.5,7.5) G25(10.5,7.5) G26(11.5,7.5) G27(12.5,7.5) G28(13.5,7.5) H1(-13.5,6.5) H2(-12.5,6.5) H3(-11.5,6.5) H4(-10.5,6.5) H5(-9.5,6.5) H6(-8.5,6.5) H7(-7.5,6.5) H8(-6.5,6.5) H9(-5.5,6.5) H10(-4.5,6.5) H11(-3.5,6.5) H12(-2.5,6.5) H13(-1.5,6.5) H14(-0.5,6.5) H15(0.5,6.5) H16(1.5,6.5) H17(2.5,6.5) H18(3.5,6.5) H19(4.5,6.5) H20(5.5,6.5) H21(6.5,6.5) H22(7.5,6.5) H23(8.5,6.5) H24(9.5,6.5) H25(10.5,6.5) H26(11.5,6.5) H27(12.5,6.5) H28(13.5,6.5) J1(-13.5,5.5) J2(-12.5,5.5) J3(-11.5,5.5) J4(-10.5,5.5) J5(-9.5,5.5) J6(-8.5,5.5) J7(-7.5,5.5) J8(-6.5,5.5) J9(-5.5,5.5) J10(-4.5,5.5) J11(-3.5,5.5) J12(-2.5,5.5) J13(-1.5,5.5) J14(-0.5,5.5) J15(0.5,5.5) J16(1.5,5.5) J17(2.5,5.5) J18(3.5,5.5) J19(4.5,5.5) J20(5.5,5.5) J21(6.5,5.5) J22(7.5,5.5) J23(8.5,5.5) J24(9.5,5.5) J25(10.5,5.5) J26(11.5,5.5) J27(12.5,5.5) J28(13.5,5.5) K1(-13.5,4.5) K2(-12.5,4.5) K3(-11.5,4.5) K4(-10.5,4.5) K5(-9.5,4.5) K6(-8.5,4.5) K7(-7.5,4.5) K8(-6.5,4.5) K9(-5.5,4.5) K10(-4.5,4.5) K11(-3.5,4.5) K12(-2.5,4.5) K13(-1.5,4.5) K14(-0.5,4.5) K15(0.5,4.5) K16(1.5,4.5) K17(2.5,4.5) K18(3.5,4.5) K19(4.5,4.5) K20(5.5,4.5) K21(6.5,4.5) K22(7.5,4.5) K23(8.5,4.5) K24(9.5,4.5) K25(10.5,4.5) K26(11.5,4.5) K27(12.5,4.5) K28(13.5,4.5) L1(-13.5,3.5) L2(-12.5,3.5) L3(-11.5,3.5) L4(-10.5,3.5) L5(-9.5,3.5) L6(-8.5,3.5) L7(-7.5,3.5) L8(-6.5,3.5) L9(-5.5,3.5) L10(-4.5,3.5) L11(-3.5,3.5) L12(-2.5,3.5) L13(-1.5,3.5) L14(-0.5,3.5) L15(0.5,3.5) L16(1.5,3.5) L17(2.5,3.5) L18(3.5,3.5) L19(4.5,3.5) L20(5.5,3.5) L21(6.5,3.5) L22(7.5,3.5) L23(8.5,3.5) L24(9.5,3.5) L25(10.5,3.5) L26(11.5,3.5) L27(12.5,3.5) L28(13.5,3.5) M1(-13.5,2.5) M2(-12.5,2.5) M3(-11.5,2.5) M4(-10.5,2.5) M5(-9.5,2.5) M6(-8.5,2.5) M7(-7.5,2.5) M8(-6.5,2.5) M9(-5.5,2.5) M10(-4.5,2.5) M11(-3.5,2.5) M12(-2.5,2.5) M13(-1.5,2.5) M14(-0.5,2.5) M15(0.5,2.5) M16(1.5,2.5) M17(2.5,2.5) M18(3.5,2.5) M19(4.5,2.5) M20(5.5,2.5) M21(6.5,2.5) M22(7.5,2.5) M23(8.5,2.5) M24(9.5,2.5) M25(10.5,2.5) M26(11.5,2.5) M27(12.5,2.5) M28(13.5,2.5) N1(-13.5,1.5) N2(-12.5,1.5) N3(-11.5,1.5) N4(-10.5,1.5) N5(-9.5,1.5) N6(-8.5,1.5) N7(-7.5,1.5) N8(-6.5,1.5) N9(-5.5,1.5) N10(-4.5,1.5) N11(-3.5,1.5) N12(-2.5,1.5) N13(-1.5,1.5) N14(-0.5,1.5) N15(0.5,1.5) N16(1.5,1.5) N17(2.5,1.5) N18(3.5,1.5) N19(4.5,1.5) N20(5.5,1.5) N21(6.5,1.5) N22(7.5,1.5) N23(8.5,1.5) N24(9.5,1.5) N25(10.5,1.5) N26(11.5,1.5) N27(12.5,1.5) N28(13.5,1.5) P1(-13.5,0.5) P2(-12.5,0.5) P3(-11.5,0.5) P4(-10.5,0.5) P5(-9.5,0.5) P6(-8.5,0.5) P7(-7.5,0.5) P8(-6.5,0.5) P9(-5.5,0.5) P10(-4.5,0.5) P11(-3.5,0.5) P12(-2.5,0.5) P13(-1.5,0.5) P14(-0.5,0.5) P15(0.5,0.5) P16(1.5,0.5) P17(2.5,0.5) P18(3.5,0.5) P19(4.5,0.5) P20(5.5,0.5) P21(6.5,0.5) P22(7.5,0.5) P23(8.5,0.5) P24(9.5,0.5) P25(10.5,0.5) P26(11.5,0.5) P27(12.5,0.5) P28(13.5,0.5) R1(-13.5,-0.5) R2(-12.5,-0.5) R3(-11.5,-0.5) R4(-10.5,-0.5) R5(-9.5,-0.5) R6(-8.5,-0.5) R7(-7.5,-0.5) R8(-6.5,-0.5) R9(-5.5,-0.5) R10(-4.5,-0.5) R11(-3.5,-0.5) R12(-2.5,-0.5) R13(-1.5,-0.5) R14(-0.5,-0.5) R15(0.5,-0.5) R16(1.5,-0.5) R17(2.5,-0.5) R18(3.5,-0.5) R19(4.5,-0.5) R20(5.5,-0.5) R21(6.5,-0.5) R22(7.5,-0.5) R23(8.5,-0.5) R24(9.5,-0.5) R25(10.5,-0.5) R26(11.5,-0.5) R27(12.5,-0.5) R28(13.5,-0.5) T1(-13.5,-1.5) T2(-12.5,-1.5) T3(-11.5,-1.5) T4(-10.5,-1.5) T5(-9.5,-1.5) T6(-8.5,-1.5) T7(-7.5,-1.5) T8(-6.5,-1.5) T9(-5.5,-1.5) T10(-4.5,-1.5) T11(-3.5,-1.5) T12(-2.5,-1.5) T13(-1.5,-1.5) T14(-0.5,-1.5) T15(0.5,-1.5) T16(1.5,-1.5) T17(2.5,-1.5) T18(3.5,-1.5) T19(4.5,-1.5) T20(5.5,-1.5) T21(6.5,-1.5) T22(7.5,-1.5) T23(8.5,-1.5) T24(9.5,-1.5) T25(10.5,-1.5) T26(11.5,-1.5) T27(12.5,-1.5) T28(13.5,-1.5) U1(-13.5,-2.5) U2(-12.5,-2.5) U3(-11.5,-2.5) U4(-10.5,-2.5) U5(-9.5,-2.5) U6(-8.5,-2.5) U7(-7.5,-2.5) U8(-6.5,-2.5) U9(-5.5,-2.5) U10(-4.5,-2.5) U11(-3.5,-2.5) U12(-2.5,-2.5) U13(-1.5,-2.5) U14(-0.5,-2.5) U15(0.5,-2.5) U16(1.5,-2.5) U17(2.5,-2.5) U18(3.5,-2.5) U19(4.5,-2.5) U20(5.5,-2.5) U21(6.5,-2.5) U22(7.5,-2.5) U23(8.5,-2.5) U24(9.5,-2.5) U25(10.5,-2.5) U26(11.5,-2.5) U27(12.5,-2.5) U28(13.5,-2.5) V1(-13.5,-3.5) V2(-12.5,-3.5) V3(-11.5,-3.5) V4(-10.5,-3.5) V5(-9.5,-3.5) V6(-8.5,-3.5) V7(-7.5,-3.5) V8(-6.5,-3.5) V9(-5.5,-3.5) V10(-4.5,-3.5) V11(-3.5,-3.5) V12(-2.5,-3.5) V13(-1.5,-3.5) V14(-0.5,-3.5) V15(0.5,-3.5) V16(1.5,-3.5) V17(2.5,-3.5) V18(3.5,-3.5) V19(4.5,-3.5) V20(5.5,-3.5) V21(6.5,-3.5) V22(7.5,-3.5) V23(8.5,-3.5) V24(9.5,-3.5) V25(10.5,-3.5) V26(11.5,-3.5) V27(12.5,-3.5) V28(13.5,-3.5) W1(-13.5,-4.5) W2(-12.5,-4.5) W3(-11.5,-4.5) W4(-10.5,-4.5) W5(-9.5,-4.5) W6(-8.5,-4.5) W7(-7.5,-4.5) W8(-6.5,-4.5) W9(-5.5,-4.5) W10(-4.5,-4.5) W11(-3.5,-4.5) W12(-2.5,-4.5) W13(-1.5,-4.5) W14(-0.5,-4.5) W15(0.5,-4.5) W16(1.5,-4.5) W17(2.5,-4.5) W18(3.5,-4.5) W19(4.5,-4.5) W20(5.5,-4.5) W21(6.5,-4.5) W22(7.5,-4.5) W23(8.5,-4.5) W24(9.5,-4.5) W25(10.5,-4.5) W26(11.5,-4.5) W27(12.5,-4.5) W28(13.5,-4.5) Y1(-13.5,-5.5) Y2(-12.5,-5.5) Y3(-11.5,-5.5) Y4(-10.5,-5.5) Y5(-9.5,-5.5) Y6(-8.5,-5.5) Y7(-7.5,-5.5) Y8(-6.5,-5.5) Y9(-5.5,-5.5) Y10(-4.5,-5.5) Y11(-3.5,-5.5) Y12(-2.5,-5.5) Y13(-1.5,-5.5) Y14(-0.5,-5.5) Y15(0.5,-5.5) Y16(1.5,-5.5) Y17(2.5,-5.5) Y18(3.5,-5.5) Y19(4.5,-5.5) Y20(5.5,-5.5) Y21(6.5,-5.5) Y22(7.5,-5.5) Y23(8.5,-5.5) Y24(9.5,-5.5) Y25(10.5,-5.5) Y26(11.5,-5.5) Y27(12.5,-5.5) Y28(13.5,-5.5)
Top Overlay:
  circle w0.25: c-15.155,13.5 r0.125
  lines w0.2: -14.5,-13.5 -13.5,-14.5 13.5,-14.5 14.5,-13.5 14.5,13.5 13.5,14.5 -14.5,14.5 -14.5,-13.5

## PBGA29X29-FO729 [mm] "BGA; 729 Balls; Body 29 x 29 mm; Pitch 1 mm"
height 3.5
pads (729):
  round 0.5 smd: A1(-13,13) A2(-12,13) A3(-11,13) A4(-10,13) A5(-9,13) A6(-8,13) A7(-7,13) A8(-6,13) A9(-5,13) A10(-4,13) A11(-3,13) A12(-2,13) A13(-1,13) A14(0,13) A15(1,13) A16(2,13) A17(3,13) A18(4,13) A19(5,13) A20(6,13) A21(7,13) A22(8,13) A23(9,13) A24(10,13) A25(11,13) A26(12,13) A27(13,13) AA1(-13,-7) AA2(-12,-7) AA3(-11,-7) AA4(-10,-7) AA5(-9,-7) AA6(-8,-7) AA7(-7,-7) AA8(-6,-7) AA9(-5,-7) AA10(-4,-7) AA11(-3,-7) AA12(-2,-7) AA13(-1,-7) AA14(0,-7) AA15(1,-7) AA16(2,-7) AA17(3,-7) AA18(4,-7) AA19(5,-7) AA20(6,-7) AA21(7,-7) AA22(8,-7) AA23(9,-7) AA24(10,-7) AA25(11,-7) AA26(12,-7) AA27(13,-7) AB1(-13,-8) AB2(-12,-8) AB3(-11,-8) AB4(-10,-8) AB5(-9,-8) AB6(-8,-8) AB7(-7,-8) AB8(-6,-8) AB9(-5,-8) AB10(-4,-8) AB11(-3,-8) AB12(-2,-8) AB13(-1,-8) AB14(0,-8) AB15(1,-8) AB16(2,-8) AB17(3,-8) AB18(4,-8) AB19(5,-8) AB20(6,-8) AB21(7,-8) AB22(8,-8) AB23(9,-8) AB24(10,-8) AB25(11,-8) AB26(12,-8) AB27(13,-8) AC1(-13,-9) AC2(-12,-9) AC3(-11,-9) AC4(-10,-9) AC5(-9,-9) AC6(-8,-9) AC7(-7,-9) AC8(-6,-9) AC9(-5,-9) AC10(-4,-9) AC11(-3,-9) AC12(-2,-9) AC13(-1,-9) AC14(0,-9) AC15(1,-9) AC16(2,-9) AC17(3,-9) AC18(4,-9) AC19(5,-9) AC20(6,-9) AC21(7,-9) AC22(8,-9) AC23(9,-9) AC24(10,-9) AC25(11,-9) AC26(12,-9) AC27(13,-9) AD1(-13,-10) AD2(-12,-10) AD3(-11,-10) AD4(-10,-10) AD5(-9,-10) AD6(-8,-10) AD7(-7,-10) AD8(-6,-10) AD9(-5,-10) AD10(-4,-10) AD11(-3,-10) AD12(-2,-10) AD13(-1,-10) AD14(0,-10) AD15(1,-10) AD16(2,-10) AD17(3,-10) AD18(4,-10) AD19(5,-10) AD20(6,-10) AD21(7,-10) AD22(8,-10) AD23(9,-10) AD24(10,-10) AD25(11,-10) AD26(12,-10) AD27(13,-10) AE1(-13,-11) AE2(-12,-11) AE3(-11,-11) AE4(-10,-11) AE5(-9,-11) AE6(-8,-11) AE7(-7,-11) AE8(-6,-11) AE9(-5,-11) AE10(-4,-11) AE11(-3,-11) AE12(-2,-11) AE13(-1,-11) AE14(0,-11) AE15(1,-11) AE16(2,-11) AE17(3,-11) AE18(4,-11) AE19(5,-11) AE20(6,-11) AE21(7,-11) AE22(8,-11) AE23(9,-11) AE24(10,-11) AE25(11,-11) AE26(12,-11) AE27(13,-11) AF1(-13,-12) AF2(-12,-12) AF3(-11,-12) AF4(-10,-12) AF5(-9,-12) AF6(-8,-12) AF7(-7,-12) AF8(-6,-12) AF9(-5,-12) AF10(-4,-12) AF11(-3,-12) AF12(-2,-12) AF13(-1,-12) AF14(0,-12) AF15(1,-12) AF16(2,-12) AF17(3,-12) AF18(4,-12) AF19(5,-12) AF20(6,-12) AF21(7,-12) AF22(8,-12) AF23(9,-12) AF24(10,-12) AF25(11,-12) AF26(12,-12) AF27(13,-12) AG1(-13,-13) AG2(-12,-13) AG3(-11,-13) AG4(-10,-13) AG5(-9,-13) AG6(-8,-13) AG7(-7,-13) AG8(-6,-13) AG9(-5,-13) AG10(-4,-13) AG11(-3,-13) AG12(-2,-13) AG13(-1,-13) AG14(0,-13) AG15(1,-13) AG16(2,-13) AG17(3,-13) AG18(4,-13) AG19(5,-13) AG20(6,-13) AG21(7,-13) AG22(8,-13) AG23(9,-13) AG24(10,-13) AG25(11,-13) AG26(12,-13) AG27(13,-13) B1(-13,12) B2(-12,12) B3(-11,12) B4(-10,12) B5(-9,12) B6(-8,12) B7(-7,12) B8(-6,12) B9(-5,12) B10(-4,12) B11(-3,12) B12(-2,12) B13(-1,12) B14(0,12) B15(1,12) B16(2,12) B17(3,12) B18(4,12) B19(5,12) B20(6,12) B21(7,12) B22(8,12) B23(9,12) B24(10,12) B25(11,12) B26(12,12) B27(13,12) C1(-13,11) C2(-12,11) C3(-11,11) C4(-10,11) C5(-9,11) C6(-8,11) C7(-7,11) C8(-6,11) C9(-5,11) C10(-4,11) C11(-3,11) C12(-2,11) C13(-1,11) C14(0,11) C15(1,11) C16(2,11) C17(3,11) C18(4,11) C19(5,11) C20(6,11) C21(7,11) C22(8,11) C23(9,11) C24(10,11) C25(11,11) C26(12,11) C27(13,11) D1(-13,10) D2(-12,10) D3(-11,10) D4(-10,10) D5(-9,10) D6(-8,10) D7(-7,10) D8(-6,10) D9(-5,10) D10(-4,10) D11(-3,10) D12(-2,10) D13(-1,10) D14(0,10) D15(1,10) D16(2,10) D17(3,10) D18(4,10) D19(5,10) D20(6,10) D21(7,10) D22(8,10) D23(9,10) D24(10,10) D25(11,10) D26(12,10) D27(13,10) E1(-13,9) E2(-12,9) E3(-11,9) E4(-10,9) E5(-9,9) E6(-8,9) E7(-7,9) E8(-6,9) E9(-5,9) E10(-4,9) E11(-3,9) E12(-2,9) E13(-1,9) E14(0,9) E15(1,9) E16(2,9) E17(3,9) E18(4,9) E19(5,9) E20(6,9) E21(7,9) E22(8,9) E23(9,9) E24(10,9) E25(11,9) E26(12,9) E27(13,9) F1(-13,8) F2(-12,8) F3(-11,8) F4(-10,8) F5(-9,8) F6(-8,8) F7(-7,8) F8(-6,8) F9(-5,8) F10(-4,8) F11(-3,8) F12(-2,8) F13(-1,8) F14(0,8) F15(1,8) F16(2,8) F17(3,8) F18(4,8) F19(5,8) F20(6,8) F21(7,8) F22(8,8) F23(9,8) F24(10,8) F25(11,8) F26(12,8) F27(13,8) G1(-13,7) G2(-12,7) G3(-11,7) G4(-10,7) G5(-9,7) G6(-8,7) G7(-7,7) G8(-6,7) G9(-5,7) G10(-4,7) G11(-3,7) G12(-2,7) G13(-1,7) G14(0,7) G15(1,7) G16(2,7) G17(3,7) G18(4,7) G19(5,7) G20(6,7) G21(7,7) G22(8,7) G23(9,7) G24(10,7) G25(11,7) G26(12,7) G27(13,7) H1(-13,6) H2(-12,6) H3(-11,6) H4(-10,6) H5(-9,6) H6(-8,6) H7(-7,6) H8(-6,6) H9(-5,6) H10(-4,6) H11(-3,6) H12(-2,6) H13(-1,6) H14(0,6) H15(1,6) H16(2,6) H17(3,6) H18(4,6) H19(5,6) H20(6,6) H21(7,6) H22(8,6) H23(9,6) H24(10,6) H25(11,6) H26(12,6) H27(13,6) J1(-13,5) J2(-12,5) J3(-11,5) J4(-10,5) J5(-9,5) J6(-8,5) J7(-7,5) J8(-6,5) J9(-5,5) J10(-4,5) J11(-3,5) J12(-2,5) J13(-1,5) J14(0,5) J15(1,5) J16(2,5) J17(3,5) J18(4,5) J19(5,5) J20(6,5) J21(7,5) J22(8,5) J23(9,5) J24(10,5) J25(11,5) J26(12,5) J27(13,5) K1(-13,4) K2(-12,4) K3(-11,4) K4(-10,4) K5(-9,4) K6(-8,4) K7(-7,4) K8(-6,4) K9(-5,4) K10(-4,4) K11(-3,4) K12(-2,4) K13(-1,4) K14(0,4) K15(1,4) K16(2,4) K17(3,4) K18(4,4) K19(5,4) K20(6,4) K21(7,4) K22(8,4) K23(9,4) K24(10,4) K25(11,4) K26(12,4) K27(13,4) L1(-13,3) L2(-12,3) L3(-11,3) L4(-10,3) L5(-9,3) L6(-8,3) L7(-7,3) L8(-6,3) L9(-5,3) L10(-4,3) L11(-3,3) L12(-2,3) L13(-1,3) L14(0,3) L15(1,3) L16(2,3) L17(3,3) L18(4,3) L19(5,3) L20(6,3) L21(7,3) L22(8,3) L23(9,3) L24(10,3) L25(11,3) L26(12,3) L27(13,3) M1(-13,2) M2(-12,2) M3(-11,2) M4(-10,2) M5(-9,2) M6(-8,2) M7(-7,2) M8(-6,2) M9(-5,2) M10(-4,2) M11(-3,2) M12(-2,2) M13(-1,2) M14(0,2) M15(1,2) M16(2,2) M17(3,2) M18(4,2) M19(5,2) M20(6,2) M21(7,2) M22(8,2) M23(9,2) M24(10,2) M25(11,2) M26(12,2) M27(13,2) N1(-13,1) N2(-12,1) N3(-11,1) N4(-10,1) N5(-9,1) N6(-8,1) N7(-7,1) N8(-6,1) N9(-5,1) N10(-4,1) N11(-3,1) N12(-2,1) N13(-1,1) N14(0,1) N15(1,1) N16(2,1) N17(3,1) N18(4,1) N19(5,1) N20(6,1) N21(7,1) N22(8,1) N23(9,1) N24(10,1) N25(11,1) N26(12,1) N27(13,1) P1(-13,0) P2(-12,0) P3(-11,0) P4(-10,0) P5(-9,0) P6(-8,0) P7(-7,0) P8(-6,0) P9(-5,0) P10(-4,0) P11(-3,0) P12(-2,0) P13(-1,0) P14(0,0) P15(1,0) P16(2,0) P17(3,0) P18(4,0) P19(5,0) P20(6,0) P21(7,0) P22(8,0) P23(9,0) P24(10,0) P25(11,0) P26(12,0) P27(13,0) R1(-13,-1) R2(-12,-1) R3(-11,-1) R4(-10,-1) R5(-9,-1) R6(-8,-1) R7(-7,-1) R8(-6,-1) R9(-5,-1) R10(-4,-1) R11(-3,-1) R12(-2,-1) R13(-1,-1) R14(0,-1) R15(1,-1) R16(2,-1) R17(3,-1) R18(4,-1) R19(5,-1) R20(6,-1) R21(7,-1) R22(8,-1) R23(9,-1) R24(10,-1) R25(11,-1) R26(12,-1) R27(13,-1) T1(-13,-2) T2(-12,-2) T3(-11,-2) T4(-10,-2) T5(-9,-2) T6(-8,-2) T7(-7,-2) T8(-6,-2) T9(-5,-2) T10(-4,-2) T11(-3,-2) T12(-2,-2) T13(-1,-2) T14(0,-2) T15(1,-2) T16(2,-2) T17(3,-2) T18(4,-2) T19(5,-2) T20(6,-2) T21(7,-2) T22(8,-2) T23(9,-2) T24(10,-2) T25(11,-2) T26(12,-2) T27(13,-2) U1(-13,-3) U2(-12,-3) U3(-11,-3) U4(-10,-3) U5(-9,-3) U6(-8,-3) U7(-7,-3) U8(-6,-3) U9(-5,-3) U10(-4,-3) U11(-3,-3) U12(-2,-3) U13(-1,-3) U14(0,-3) U15(1,-3) U16(2,-3) U17(3,-3) U18(4,-3) U19(5,-3) U20(6,-3) U21(7,-3) U22(8,-3) U23(9,-3) U24(10,-3) U25(11,-3) U26(12,-3) U27(13,-3) V1(-13,-4) V2(-12,-4) V3(-11,-4) V4(-10,-4) V5(-9,-4) V6(-8,-4) V7(-7,-4) V8(-6,-4) V9(-5,-4) V10(-4,-4) V11(-3,-4) V12(-2,-4) V13(-1,-4) V14(0,-4) V15(1,-4) V16(2,-4) V17(3,-4) V18(4,-4) V19(5,-4) V20(6,-4) V21(7,-4) V22(8,-4) V23(9,-4) V24(10,-4) V25(11,-4) V26(12,-4) V27(13,-4) W1(-13,-5) W2(-12,-5) W3(-11,-5) W4(-10,-5) W5(-9,-5) W6(-8,-5) W7(-7,-5) W8(-6,-5) W9(-5,-5) W10(-4,-5) W11(-3,-5) W12(-2,-5) W13(-1,-5) W14(0,-5) W15(1,-5) W16(2,-5) W17(3,-5) W18(4,-5) W19(5,-5) W20(6,-5) W21(7,-5) W22(8,-5) W23(9,-5) W24(10,-5) W25(11,-5) W26(12,-5) W27(13,-5) Y1(-13,-6) Y2(-12,-6) Y3(-11,-6) Y4(-10,-6) Y5(-9,-6) Y6(-8,-6) Y7(-7,-6) Y8(-6,-6) Y9(-5,-6) Y10(-4,-6) Y11(-3,-6) Y12(-2,-6) Y13(-1,-6) Y14(0,-6) Y15(1,-6) Y16(2,-6) Y17(3,-6) Y18(4,-6) Y19(5,-6) Y20(6,-6) Y21(7,-6) Y22(8,-6) Y23(9,-6) Y24(10,-6) Y25(11,-6) Y26(12,-6) Y27(13,-6)
Top Overlay:
  circle w0.25: c-15.155,13 r0.125
  lines w0.2: -14.5,-13.5 -13.5,-14.5 13.5,-14.5 14.5,-13.5 14.5,13.5 13.5,14.5 -14.5,14.5 -14.5,-13.5